# EAGLE library part MAX541 (library MyComponents)
16-Bit DACs
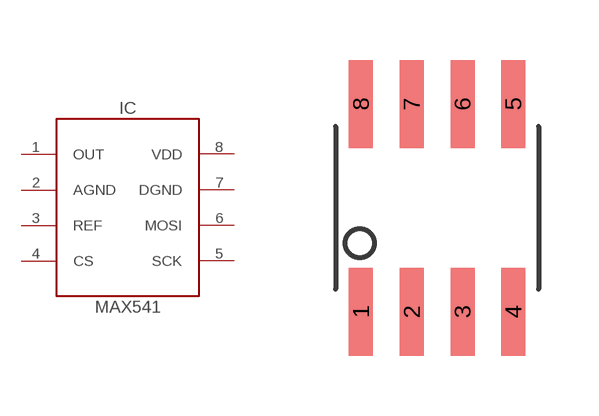
[diagram p5: symbol with the pads of SOIC-8; footprint SOIC-8]

Designator prefix IC

## MAX541  [SOIC-8]
1  OUT
2  AGND
3  REF
4  CS
5  SCK
6  MOSI
7  DGND
8  VDD

## Footprint SOIC-8 (pad centres in mm)
SMALL OUTLINE INTEGRATED CIRCUIT body 3.9 mm/JEDEC MS-012AA
smd 0.6 x 2.2: 1 -1.905,-2.6; 2 -0.635,-2.6; 3 0.635,-2.6; 4 1.905,-2.6; 5 1.905,2.6; 6 0.635,2.6; 7 -0.635,2.6; 8 -1.905,2.6